# EAGLE library part RASPBERRY-PI (library p.peter-periphery)
Raspberry Pi Board <http://www.raspberrypi.org/> Jacques Lagnel V1.0 (beta) 2012 Board dimension: Forum 3D model <http://www.raspberrypi.org/forum/general-discussion/mechanical-profile-3d-models?value=3d%20model&type=1&include=1&search=1&ret=all> The GPIO Connector (P1): http://elinux.org/RPi_Low-level_peripherals
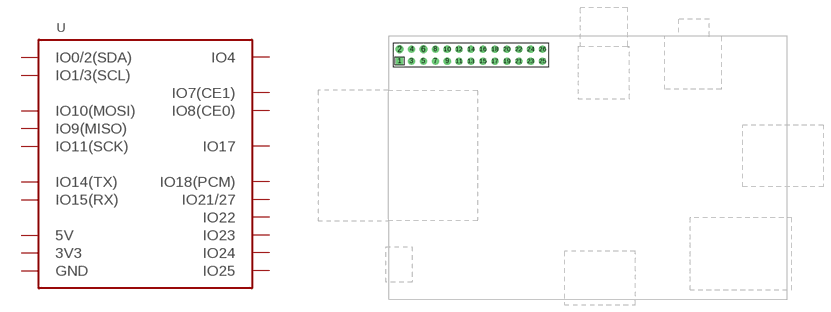
[diagram p4: symbol with the pads of RASPBERRY-PI; footprint RASPBERRY-PI]

Designator prefix -

## RASPBERRY-PI  [RASPBERRY-PI]
1  3V3
2  5V
3  IO0/2(SDA)
4  5V
5  IO1/3(SCL)
6  GND
7  IO4
8  IO14(TX)
9  GND
10  IO15(RX)
11  IO17
12  IO18(PCM)
13  IO21/27
14  GND
15  IO22
16  IO23
17  3V3
18  IO24
19  IO10(MOSI)
20  GND
21  IO9(MISO)
22  IO25
23  IO11(SCK)
24  IO8(CE0)
25  GND
26  IO7(CE1)

## Footprint RASPBERRY-PI (pad centres in mm)
drill 1 square: 1 0,0
drill 1 pad 1.676: 2 0,2.54; 6 5.08,2.54
drill 1: 3 2.54,0; 4 2.54,2.54; 5 5.08,0; 7 7.62,0; 8 7.62,2.54; 9 10.16,0; 10 10.16,2.54; 11 12.7,0; 12 12.7,2.54; 13 15.24,0; 14 15.24,2.54; 15 17.78,0; 16 17.78,2.54; 17 20.32,0; 18 20.32,2.54; 19 22.86,0; 20 22.86,2.54; 21 25.4,0; 22 25.4,2.54; 23 27.94,0; 24 27.94,2.54; 25 30.48,0; 26 30.48,2.54